# Altium schematic symbol library can_bus_ics.SchLib: 1 symbol
Pins are listed as number, name and electrical type; pins without a type are passive.

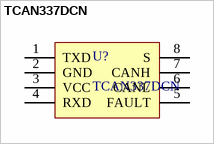
[diagram p0: symbol TCAN337DCN]

## TCAN337DCN
designator U?
Texas Instruments 3.3-V CAN transceiver with CAN FD support. SOT-32 package.; Value: TCAN337DCN; Part Number: TCAN337DCN; Manufacturer: Texas Instruments
footprint TCAN337DCN_SOT32_8 (SOT23, 8-Leads, Body 2,90x1,60mm, Pitch 0,65mm, IPC Medium Density)
pins: 1 TXD, 2 GND, 3 VCC, 4 RXD, 5 FAULT, 6 CANL, 7 CANH, 8 S